# Altium schematic symbol library schematic.SchLib: 27 symbols
Pins are listed as number, name and electrical type; pins without a type are passive.

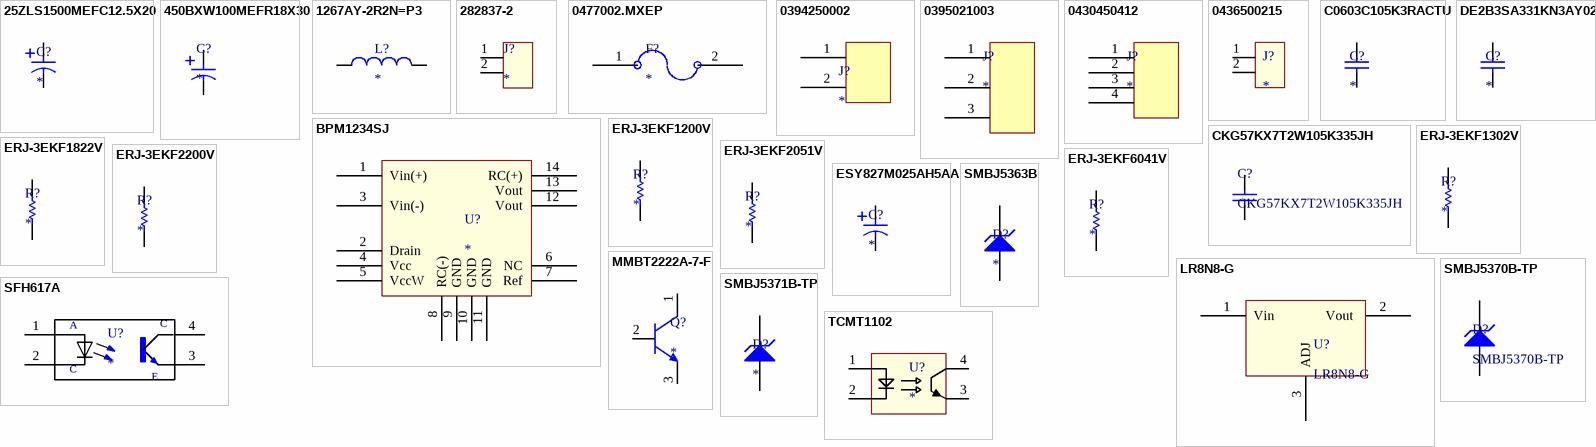
[diagram p0: symbols 25ZLS1500MEFC12.5X20 to TCMT1102]

## 25ZLS1500MEFC12.5X20
designator C?
Capacitors, Aluminum Electrolytic, Radial, Can, 1500µF, 25V; ComponentLink1Description: Datasheet; ComponentLink1URL: http://www.rubycon.co.jp/en/catalog/e_pdfs/aluminum/e_zls.pdf; ComponentLink2Description: Supplier; ComponentLink2URL: https://www.digikey.com/product-detail/en/rubycon/25ZLS1500MEFC12.5X20/1189-2590-ND/4977137
footprint 25ZLS1500MEFC12.5X20
pins: 1, 2

## 450BXW100MEFR18X30
designator C?
Capacitors, Radial, Can, 100µF 450V Aluminum; ComponentLink1Description: Datasheet; ComponentLink1URL: http://www.rubycon.co.jp/en/catalog/e_pdfs/aluminum/e_BXW.pdf; ComponentLink2Description: Supplier; ComponentLink2URL: https://www.digikey.com/product-detail/en/rubycon/450BXW100MEFR18X30/1189-3221-ND/6050094
footprint 450BXW100MEFR18X30
pins: 1, 2

## 1267AY-2R2N=P3
designator L?
Shielded Wirewound Inductor, 2.2µH ,7.4A 13.2mOhm Max Nonstandard; ComponentLink1Description: Datasheet; ComponentLink1URL: https://www.murata.com/~/media/webrenewal/products/inductor/chip/tokoproducts/wirewoundferritetypeforpl/m_dg8040c.ashx?la=en; ComponentLink2Description: Supplier; ComponentLink2URL: https://www.digikey.com/product-detail/en/murata-electronics/1267AY-2R2N=P3/490-10831-2-ND/5271472
footprint 1267AY2R2NP3
pins: 1, 2

## 282837-2
designator J?
Connector Terminal Blocks Receptacle 2 Position 5.08mm Solder Straight Thru-Hole 13.5A/Contact
footprint 282837-2 (2 pin connection through hole)
pins: 1, 2

## 0477002.MXEP
designator F?
Fuse, 2A 500V AC 400V DC Fuse Cartridge, Ceramic Through Hole 5mm x 20mm (Axial)
footprint 0477002.MXEP (Fuse 2A)
pins: 1, 2

## 0394250002
designator J?
2 Position Terminal Block Header, Male Pins, Shrouded (4 Side) 0.472" (12.00mm) 90°, Right Angle  Through Hole
footprint 0394250002
pins: 1, 2

## 0395021003
designator J?
2 Position Terminal Block Plug, Female Sockets 0.138" (3.50mm); Datasheet: https://www.molex.com/pdm_docs/sd/395021002_sd.pdf; ComponentLink1Description: supplier; ComponentLink1URL: https://www.digikey.com/product-detail/en/molex/0395021003/WM7771-ND/1280622
footprint 0395021003
pins: 1, 2, 3

## 0430450412
designator J?
Connector Header Through Hole 4 position 0.118" (3.00mm); ComponentLink1Description: Datasheet; ComponentLink1URL: https://www.molex.com/pdm_docs/sd/430450412_sd.pdf; ComponentLink2Description: Supplier; ComponentLink2URL: https://www.digikey.com/product-detail/en/molex/0430450412/WM1790-ND/252503
footprint 0430450412
pins: 1, 2, 3, 4

## 0436500215
designator J?
CONN HEADER VERT 2POS 3MM
pins: 1, 2

## BPM1234SJ
designator U?
Isolated DC-DC converters, 12 V, 3.4A; ComponentLink1Description: Datasheet; ComponentLink1URL: https://www.mouser.com/datasheet/2/397/BPM1234SJ_1612EE-1272167.pdf; ComponentLink2Description: Supplier; ComponentLink2URL: https://www.mouser.com/ProductDetail/Tamura/BPM1234SJ?qs=JtOM4tvdyp3RA%2FViNUppcg%3D%3D
footprint BPM1234SJ (Isolated DC-DC converter 12V)
pins: 1 Vin(+), 2 Drain, 3 Vin(-), 4 Vcc, 5 VccW, 6 NC, 7 Ref, 8 RC(-), 9 GND, 10 GND, 11 GND, 12 Vout, 13 Vout, 14 RC(+)

## C0603C105K3RACTU
designator C?
Capacitor, Ceramic, 1 uF, 25 V, ±10% SMT, 0603; ComponentLink1Description: Datasheet; ComponentLink1URL: https://content.kemet.com/datasheets/KEM_C1002_X7R_SMD.pdf; ComponentLink2Description: Supplier; ComponentLink2URL: https://www.digikey.com/product-detail/en/kemet/C0603C105K3RACTU/399-7376-1-ND/3317410
footprint C0603C105K3RACTU
footprint C0603C105K3RACTU
pins: 1, 2

## CKG57KX7T2W105K335JH
designator C?
Capacitor, Ceramic, 1uF, 450V, SMD; ComponentLink1Description: Datasheet; ComponentLink1URL: https://product.tdk.com/info/en/catalog/datasheets/mlcc_commercial_megacap_en.pdf; ComponentLink2Description: Supplier; ComponentLink2URL: https://www.digikey.com/product-detail/en/tdk-corporation/CKG57KX7T2W105K335JH/445-10489-1-ND/3932416
footprint CKG57KX7T2W105K335JH
pins: 1, 2

## DE2B3SA331KN3AY02F
designator C?
Capacitor, 330pF ±10% 400VAC Ceramic Capacitor B Radial, Disc
footprint DE2B3SA331KN3AY02F
pins: 1, 2

## ERJ-3EKF1200V
designator R?
Resistor, 120 ohms, 0603, SMD
footprint Resistor 0603
pins: 1, 2

## ERJ-3EKF1302V
designator R?
Resistor, 13K ohms, 0603, SMD; ComponentLink1Description: Supplier; ComponentLink1URL: https://www.digikey.com/product-detail/en/panasonic-electronic-components/ERJ-3EKF1302V/P13.0KHCT-ND/198148; ComponentLink2Description: Datasheet; ComponentLink2URL: *https://industrial.panasonic.com/cdbs/www-data/pdf/RDA0000/AOA0000C304.pdf
footprint Resistor 0603
pins: 1, 2

## ERJ-3EKF1822V
designator R?
Resistor, 18.2K ohms, 0603, SMD
footprint Resistor 0603
pins: 1, 2

## ERJ-3EKF2051V
designator R?
Resistor, 2.05K ohms, 0603, SMD; ComponentLink1Description: Supplier; ComponentLink1URL: https://www.digikey.cn/product-detail/zh/panasonic-electronic-components/ERJ-3EKF2051V/P2-05KHCT-ND/198220; ComponentLink2Description: Datasheet; ComponentLink2URL: https://industrial.panasonic.com/cdbs/www-data/pdf/RDA0000/AOA0000C304.pdf
footprint Resistor 0603
pins: 1, 2

## ERJ-3EKF2200V
designator R?
Resistor, 220 ohm, 0603
footprint Resistor 0603
pins: 1, 2

## ERJ-3EKF6041V
designator R?
Resistor, 6.04 kOhms ±1% 0.1W, 1/10W Chip Resistor 0603 (1608 Metric) Automotive AEC-Q200 Thick Film; ComponentLink1Description: Supplier; ComponentLink1URL: https://www.digikey.com/product-detail/en/panasonic-electronic-components/ERJ-3EKF6041V/P6.04KHCT-ND/198452
footprint Resistor 0603
pins: 1, 2

## ESY827M025AH5AA
designator C?
Capacitors Radial, Can, 820µF 25V Aluminum Electrolytic, 23mOhm @ 100kHz 4000 Hrs @ 105°C; ComponentLink1Description: Datasheet; ComponentLink1URL: https://content.kemet.com/datasheets/KEM_A4007_ESY.pdf; ComponentLink2Description: Supplier; ComponentLink2URL: https://www.digikey.com/product-detail/en/kemet/ESY827M025AH5AA/399-6647-ND/3083062
footprint ESY827M025AH5AA
pins: 1, 2

## LR8N8-G
designator U?
Voltage Regulator, Linear, input max 480V, output 1.2V - 440V, TO-243AA , SMD; ComponentLink1Description: Datasheet; ComponentLink1URL: https://www.mouser.com/datasheet/2/268/20005399A-909415.pdf; ComponentLink2Description: Supplier; ComponentLink2URL: https://www.digikey.com/product-detail/en/microchip-technology/LR8N8-G/LR8N8-GCT-ND/4918747
footprint TO-243AA(SOT-89-3)
pins: 1 Vin , 2 Vout , 3 ADJ

## MMBT2222A-7-F
designator Q?
Transistor Bipolar NPN 40V 600mA 300MHz 310mW Surface Mount SOT-23-3
footprint SOT23 (Footprint not found)
pins: 1 C, 2 B, 3 E

## SFH617A
designator U?
opto-Isolator; ComponentLink1Description: Datasheet; ComponentLink1URL: http://www.vishay.com/docs/83740/sfh617a.pdf; ComponentLink2Description: Supplier; ComponentLink2URL: https://www.digikey.com/product-detail/en/vishay-semiconductor-opto-division/SFH617A-2X017T/SFH617A-2X017TCT-ND/8556837
footprint SFH617A
pins: 1 A, 2 C, 3 E, 4 CO

## SMBJ5363B
designator D?
Diode Zener 30V 5W ±5% Surface Mount DO-214AA (SMB)
footprint 214AA
pins: 1 K, 2 A

## SMBJ5370B-TP
designator D?
Diode, Zener, 56V, 5W, 214AA; ComponentLink1Description: Supplier; ComponentLink1URL: https://www.digikey.com/product-detail/en/SMBJ5370B-TP/SMBJ5370B-TPMSCT-ND/3165257?utm_campaign=buynow&WT.z_cid=ref_octopart_dkc_buynow&utm_medium=aggregator&curr=usd&site=us&utm_source=octopart; ComponentLink2Description: Datasheet; ComponentLink2URL: https://www.mccsemi.com/pdf/Products/SMBJ5338B-SMBJ5388B(SMB).pdf
footprint 214AA
pins: 1 K, 2 A

## SMBJ5371B-TP
designator D?
Diode, Zener, 60V 5W ±5% Surface Mount DO-214AA (SMB)
footprint 214AA
pins: 1 K, 2 A

## TCMT1102
designator U?
Optoisolator Transistor Output 3750Vrms 1 Channel 4-SOP
footprint TCMT110
pins: 1 A, 2 C, 3 E, 4 C